# EAGLE library part APU (library apu_module)
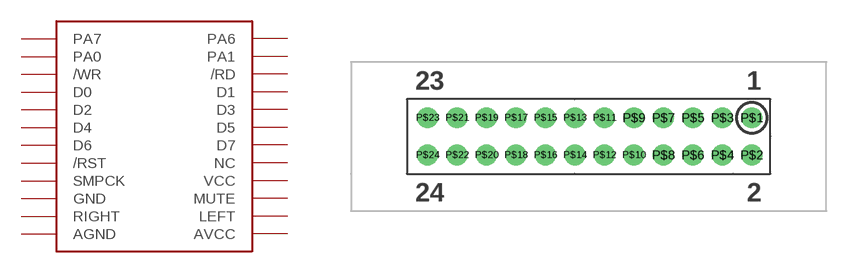
[diagram p2: symbol with the pads of APU; footprint APU]

Designator prefix -

## APU  [APU]
P$1  PA7
P$2  PA6
P$3  PA0
P$4  PA1
P$5  /WR
P$6  /RD
P$7  D0
P$8  D1
P$9  D2
P$10  D3
P$11  D4
P$12  D5
P$13  D6
P$14  D7
P$15  /RST
P$16  NC
P$17  SMPCK
P$18  VCC
P$19  GND
P$20  MUTE
P$21  LEFT
P$22  RIGHT
P$23  AGND
P$24  AVCC

## Footprint APU (pad centres in mm)
drill 0.914: P$1 0,0; P$2 0,-2.54; P$3 -2.007,0; P$4 -2.007,-2.54; P$5 -4.013,0; P$6 -4.013,-2.54; P$7 -6.02,0; P$8 -6.02,-2.54; P$9 -8.026,0; P$10 -8.026,-2.54; P$11 -10.033,0; P$12 -10.033,-2.54; P$13 -12.04,0; P$14 -12.04,-2.54; P$15 -14.046,0; P$16 -14.046,-2.54; P$17 -16.053,0; P$18 -16.053,-2.54; P$19 -18.059,0; P$20 -18.059,-2.54; P$21 -20.066,0; P$22 -20.066,-2.54; P$23 -22.073,0; P$24 -22.073,-2.54